# Altium footprint library DASH1_PcbLib1.PcbLib: 26 footprints (part 2 of 2)
Each footprint in its own frame and in the unit in brackets; x right, y up, seen from the top. Pads: shape width x height; smd on the part's side, far side on the other; paste and mask are expansions set on the pad; w line width, h text height; cw(c..) or ccw(c..) is an arc to the next point about the centre after c.
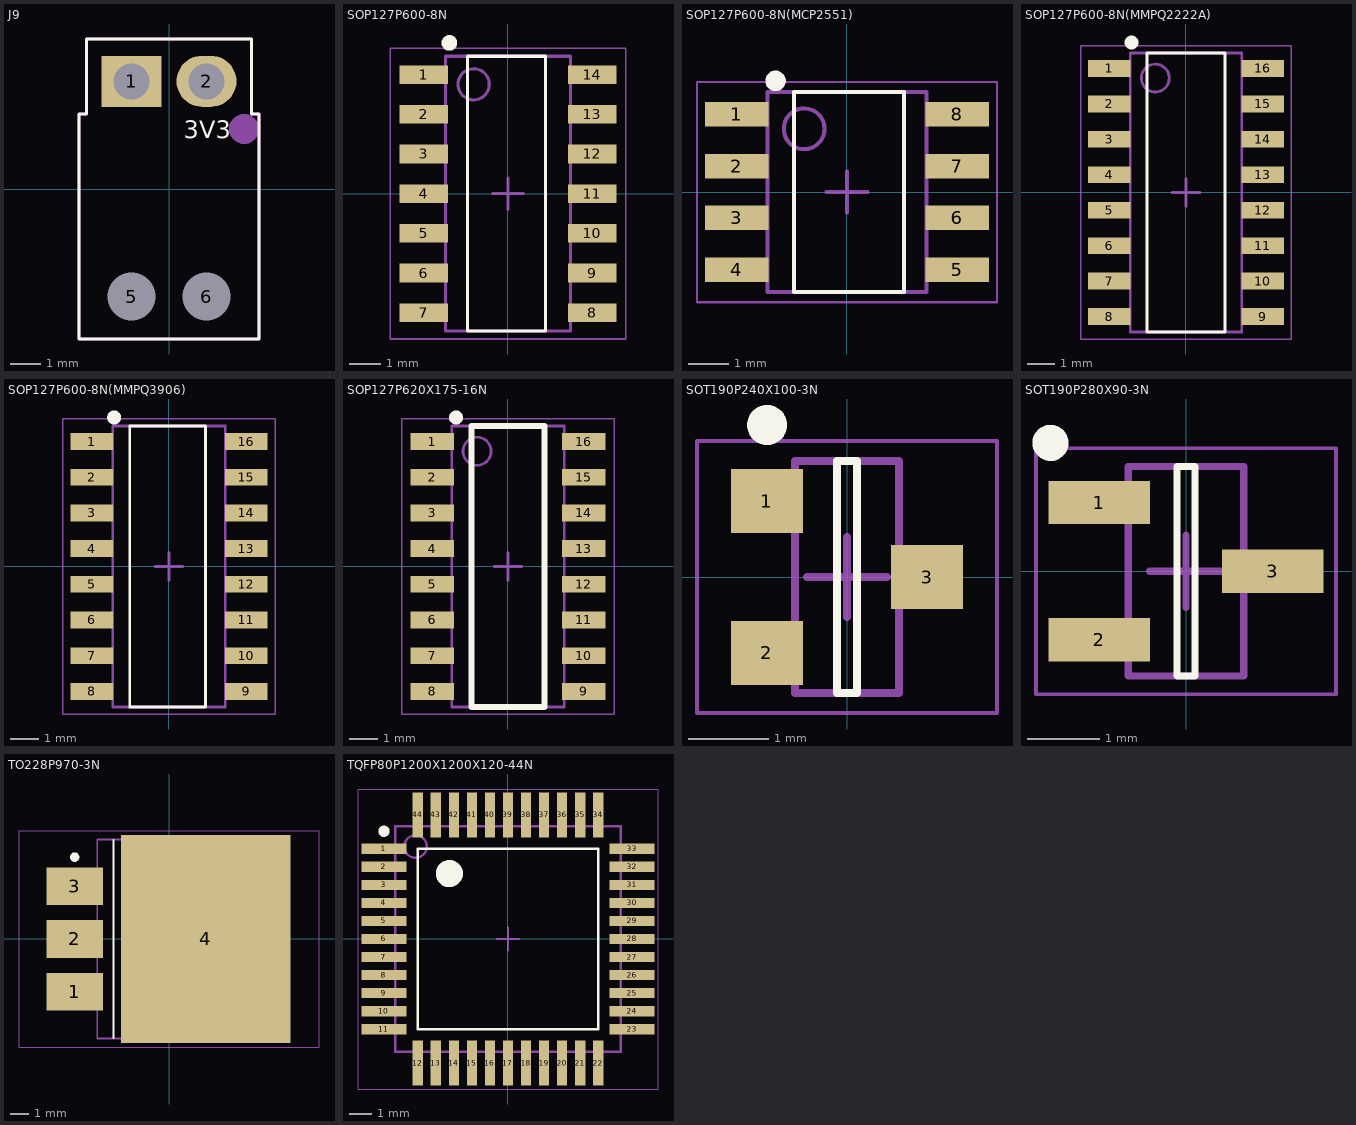
[diagram p1: the footprints below, top view; thin cyan lines are the x and y axes]

## J9 [mm]
pads (4):
  rect 2x1.7 hole 1.2: 1(-1.25,3.59)
  oval 2x1.7 hole 1.2: 2(1.25,3.59)
  round 1.2 hole 1.6: 5(-1.25,-3.59) 6(1.25,-3.59)
Top Overlay:
  lines w0.1: -3,-5 3,-5 3,2.5 2.75,2.5 2.75,5 -2.75,5 -2.75,2.5 -3,2.5 -3,-5
  text "3V3" at 0.5,1.5 h1
Mechanical 13:
  circle w0.5: c2.5,2 r0.25
  lines w0.1: -3,-5 -3,2.5 -2.75,2.5 -2.75,5 2.75,5 2.75,2.5 3,2.5 3,-5 -3,-5
  text "3V3" at 0.5,1.5 h1
  text "'.Designator'" at -2.25,0 h1
3D body "1053131202.stp": height 6.9, standoff -2.94, extent -3.05,-8.254 2.89,3.904

## SOP127P600-8N [mm]
height 1.75
pads (14):
  rect 1.55x0.6 smd: 1(-2.7,3.81) 2(-2.7,2.54) 3(-2.7,1.27) 4(-2.7,0) 5(-2.7,-1.27) 6(-2.7,-2.54) 7(-2.7,-3.81) 8(2.7,-3.81) 9(2.7,-2.54) 10(2.7,-1.27) 11(2.7,0) 12(2.7,1.27) 13(2.7,2.54) 14(2.7,3.81)
Top Overlay:
  circle w0.25: c-1.875,4.825 r0.125
  lines w0.1: -1.3,-4.4 -1.3,4.4 1.2,4.4 1.2,-4.4 -1.3,-4.4
Mechanical 13:
  circle w0.1: c-1.1,3.5 r0.5
  lines w0.1: -2,-4.4 -2,4.4 2,4.4 2,-4.4 -2,-4.4
Mechanical 15:
  lines w0.05: -3.775,-4.65 -3.775,4.65 3.775,4.65 3.775,-4.65 -3.775,-4.65
  lines w0.1: -0.5,0 0.5,0 ; 0,-0.5 0,0.5
3D body: height 1.75, standoff 0.1, extent -2,-4.4 2,4.4

## SOP127P600-8N(MCP2551) [mm]
height 1.75
pads (8):
  rect 1.55x0.6 smd: 1(-2.7,1.905) 2(-2.7,0.635) 3(-2.7,-0.635) 4(-2.7,-1.905) 5(2.7,-1.905) 6(2.7,-0.635) 7(2.7,0.635) 8(2.7,1.905)
Top Overlay:
  circle w0.25: c-1.75,2.725 r0.125
  lines w0.1: -1.3,-2.45 1.4,-2.45 1.4,2.45 -1.3,2.45 -1.3,-2.45
Mechanical 13:
  circle w0.1: c-1.05,1.55 r0.5
  lines w0.1: -1.95,-2.45 1.95,-2.45 1.95,2.45 -1.95,2.45 -1.95,-2.45
Mechanical 15:
  lines w0.05: -3.675,-2.7 3.675,-2.7 3.675,2.7 -3.675,2.7 -3.675,-2.7
  lines w0.1: -0.5,0 0.5,0 ; 0,-0.5 0,0.5
3D body: height 1.75, standoff 0.1, extent -1.95,-2.45 1.95,2.45

## SOP127P600-8N(MMPQ2222A) [mm]
height 1.75
pads (16):
  rect 1.52x0.6 smd: 1(-2.75,4.445) 2(-2.75,3.175) 3(-2.75,1.905) 4(-2.75,0.635) 5(-2.75,-0.635) 6(-2.75,-1.905) 7(-2.75,-3.175) 8(-2.75,-4.445) 9(2.75,-4.445) 10(2.75,-3.175) 11(2.75,-1.905) 12(2.75,-0.635) 13(2.75,0.635) 14(2.75,1.905) 15(2.75,3.175) 16(2.75,4.445)
Top Overlay:
  circle w0.25: c-1.95,5.375 r0.125
  lines w0.1: -1.4,-5 -1.4,5 1.4,5 1.4,-5 -1.4,-5
Mechanical 13:
  circle w0.1: c-1.1,4.1 r0.5
  lines w0.1: -2,-5 -2,5 2,5 2,-5 -2,-5
Mechanical 15:
  lines w0.05: -3.775,-5.25 -3.775,5.25 3.775,5.25 3.775,-5.25 -3.775,-5.25
  lines w0.1: -0.5,0 0.5,0 ; 0,-0.5 0,0.5
3D body: height 1.75, standoff 0.1, extent -2,-5 2,5

## SOP127P600-8N(MMPQ3906) [mm]
height 1.75
pads (16):
  rect 1.52x0.6 smd: 1(-2.75,4.445) 2(-2.75,3.175) 3(-2.75,1.905) 4(-2.75,0.635) 5(-2.75,-0.635) 6(-2.75,-1.905) 7(-2.75,-3.175) 8(-2.75,-4.445) 9(2.75,-4.445) 10(2.75,-3.175) 11(2.75,-1.905) 12(2.75,-0.635) 13(2.75,0.635) 14(2.75,1.905) 15(2.75,3.175) 16(2.75,4.445)
Top Overlay:
  circle w0.25: c-1.95,5.3 r0.125
  lines w0.1: -1.4,-5 -1.4,5 1.3,5 1.3,-5 -1.4,-5
Mechanical 13:
  lines w0.1: -2,-5 -2,5 2,5 2,-5 -2,-5
Mechanical 15:
  lines w0.05: -3.775,-5.25 -3.775,5.25 3.775,5.25 3.775,-5.25 -3.775,-5.25
  lines w0.1: -0.5,0 0.5,0 ; 0,-0.5 0,0.5
3D body: height 1.75, standoff 0.1, extent -2,-5 2,5

## SOP127P620X175-16N [mm] "SOP, 16-Leads, Body 10,00x4,00mm, Pitch 1,27mm, IPC Medium Density"
height 1.75
pads (16):
  rect 1.55x0.6 smd: 1(-2.7,4.445) 2(-2.7,3.175) 3(-2.7,1.905) 4(-2.7,0.635) 5(-2.7,-0.635) 6(-2.7,-1.905) 7(-2.7,-3.175) 8(-2.7,-4.445) 9(2.7,-4.445) 10(2.7,-3.175) 11(2.7,-1.905) 12(2.7,-0.635) 13(2.7,0.635) 14(2.7,1.905) 15(2.7,3.175) 16(2.7,4.445)
Top Overlay:
  circle w0.25: c-1.85,5.3 r0.125
  lines w0.2: -1.3,-5 1.3,-5 1.3,5 -1.3,5 -1.3,-5
Mechanical 13:
  circle w0.1: c-1.1,4.1 r0.5
  lines w0.1: -2,-5 2,-5 2,5 -2,5 -2,-5
Mechanical 15:
  lines w0.05: -3.775,-5.25 3.775,-5.25 3.775,5.25 -3.775,5.25 -3.775,-5.25
  lines w0.1: -0.5,0 0.5,0 ; 0,-0.5 0,0.5
3D body: height 1.75, standoff 0.1, extent -2,-5 2,5

## SOT190P240X100-3N [mm] "SOT223, 3-Leads, Body 2,90x2,40mm (avg), Pitch 1,90mm, IPC Medium Density"
height 1
pads (3):
  rect 0.9x0.8 smd: 1(-1,0.95) 2(-1,-0.95) 3(1,0)
Top Overlay:
  circle w0.25: c-1,1.9 r0.125
  lines w0.1: 0.1,-1.45 -0.125,-1.45 -0.125,1.45 0.125,1.45 0.125,0.725 0.125,-0.725 0.125,-1.45
Mechanical 13:
  lines w0.1: -0.65,-1.45 -0.65,1.45 0.65,1.45 0.65,-1.45 -0.65,-1.45
Mechanical 15:
  lines w0.05: -1.875,-1.7 -1.875,1.7 1.875,1.7 1.875,-1.7 -1.875,-1.7
  lines w0.1: -0.5,0 0.5,0 ; 0,-0.5 0,0.5
3D body: height 1, standoff 0.06, extent -0.65,-1.45 0.65,1.45

## SOT190P280X90-3N [mm] "SOT223, 3-Leads, Body 2,90x2,80mm (avg), Pitch 1,90mm, IPC Medium Density"
height 0.9
pads (3):
  rect 1.4x0.6 smd: 1(-1.2,0.95) 2(-1.2,-0.95) 3(1.2,0)
Top Overlay:
  circle w0.25: c-1.875,1.775 r0.125
  lines w0.1: -0.125,-1.45 -0.125,-0.725 -0.125,-0.362 -0.125,0.362 -0.125,0.725 -0.125,1.45 0.125,1.45 0.125,-1.45 -0.125,-1.45
Mechanical 13:
  lines w0.1: -0.8,-1.45 -0.8,1.45 0.8,1.45 0.8,-1.45 -0.8,-1.45
Mechanical 15:
  lines w0.05: -2.075,-1.7 -2.075,1.7 2.075,1.7 2.075,-1.7 -2.075,-1.7
  lines w0.1: -0.5,0 0.5,0 ; 0,-0.5 0,0.5
3D body: height 0.9, standoff 0.05, extent -0.8,-1.45 0.8,1.45

## TO228P970-3N [mm]
height 4.58
pads (4):
  rect 3x2 smd: 1(-5,-2.79) 2(-5,0) 3(-5,2.79)
  rect 9x11 smd: 4(1.95,0)
Top Overlay:
  circle w0.25: c-5,4.34 r0.125
  lines w0.1: -2.95,-5.25 -2.95,5.25
Mechanical 13:
  lines w0.1: -3.8,-5.275 -3.8,5.275 4.28,5.275 4.28,-5.275 -3.8,-5.275
Mechanical 15:
  lines w0.05: -7.95,-5.75 -7.95,5.75 7.95,5.75 7.95,-5.75 -7.95,-5.75
  lines w0.1: -0.5,0 0.5,0 ; 0,-0.5 0,0.5
3D body: height 4.58, standoff 0.33, extent -3.8,-5.275 4.28,5.275

## TQFP80P1200X1200X120-44N [mm] "TQFP, 44-Leads, Body 10,00x10,00mm, Pitch 0,80mm, IPC Medium Density"
height 1.2
pads (44):
  rect 2x0.45 smd: 1(-5.5,4) 2(-5.5,3.2) 3(-5.5,2.4) 4(-5.5,1.6) 5(-5.5,0.8) 6(-5.5,0) 7(-5.5,-0.8) 8(-5.5,-1.6) 9(-5.5,-2.4) 10(-5.5,-3.2) 11(-5.5,-4) 23(5.5,-4) 24(5.5,-3.2) 25(5.5,-2.4) 26(5.5,-1.6) 27(5.5,-0.8) 28(5.5,0) 29(5.5,0.8) 30(5.5,1.6) 31(5.5,2.4) 32(5.5,3.2) 33(5.5,4)
  rect 0.45x2 smd: 12(-4,-5.5) 13(-3.2,-5.5) 14(-2.4,-5.5) 15(-1.6,-5.5) 16(-0.8,-5.5) 17(0,-5.5) 18(0.8,-5.5) 19(1.6,-5.5) 20(2.4,-5.5) 21(3.2,-5.5) 22(4,-5.5) 34(4,5.5) 35(3.2,5.5) 36(2.4,5.5) 37(1.6,5.5) 38(0.8,5.5) 39(0,5.5) 40(-0.8,5.5) 41(-1.6,5.5) 42(-2.4,5.5) 43(-3.2,5.5) 44(-4,5.5)
Top Overlay:
  circle w0.25: c-5.5,4.775 r0.125
  circle w0.6: c-2.6,2.9 r0.3
  lines w0.1: -4,-4 -4,4 4,4 4,-4 -4,-4
Mechanical 13:
  circle w0.1: c-4.1,4.1 r0.5
  lines w0.1: -5,-5 -5,5 5,5 5,-5 -5,-5
Mechanical 15:
  lines w0.05: -6.65,-6.65 -6.65,6.65 6.65,6.65 6.65,-6.65 -6.65,-6.65
  lines w0.1: -0.5,0 0.5,0 ; 0,-0.5 0,0.5
3D body: height 1.2, standoff 0.15, extent -5,-5 5,5